# Altium schematic symbol library LNA_1.7GHz.SchLib: 22 symbols
Pins are listed as number, name and electrical type; pins without a type are passive.

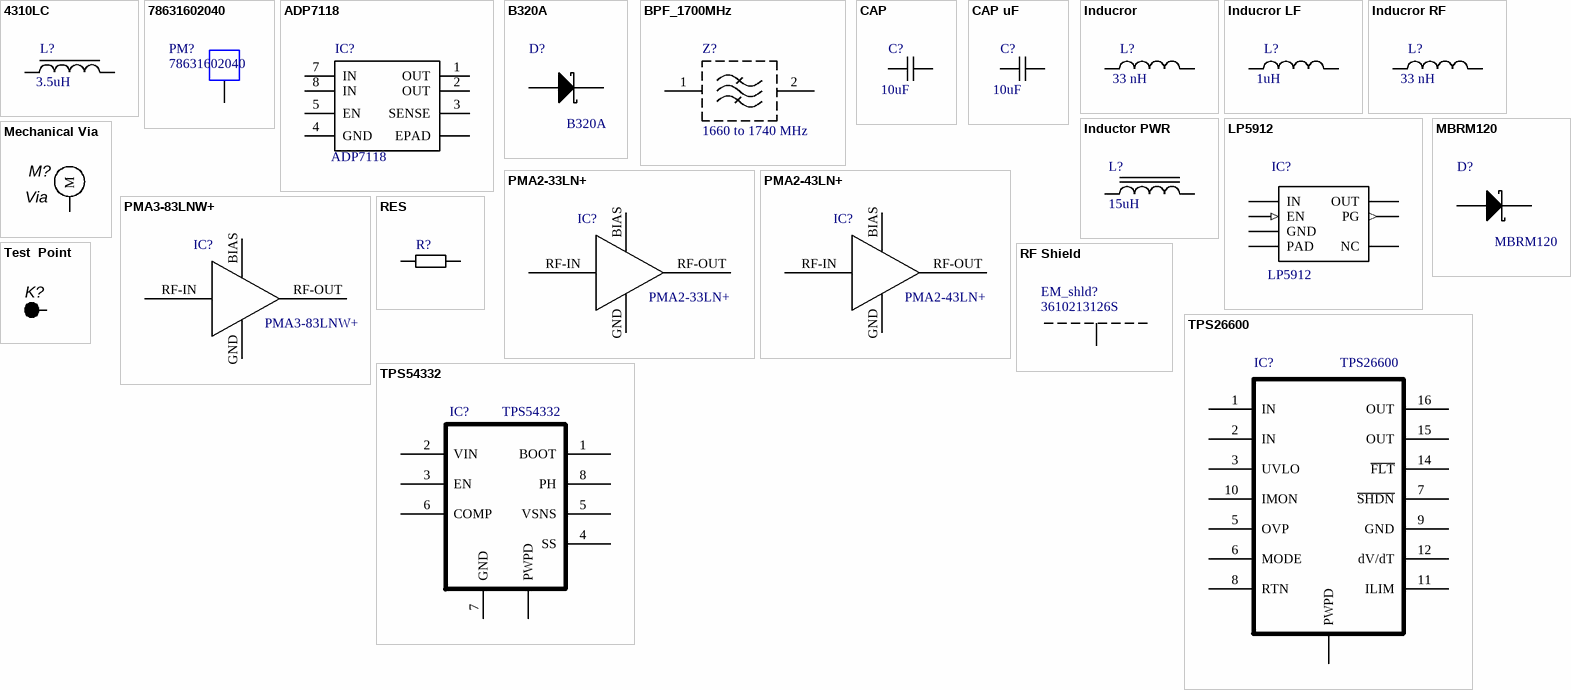
[diagram p0: symbols 4310LC to TPS54332]

## 4310LC
designator L?, comment 3.5uH
Индуктивность; Название: 4310lc; Производитель: Coilcraft; Вид монтажа: SMD; Тип элемента: Катушка индуктивности; Температурный диапазон: -40ºC to 125ºC; Примечание: 3A; Артикул: 4310lc; Номинал: 3.5uH
footprint 4310LC (Coilcraft)
pins: 1, 2

## 78631602040
designator PM?
WE-SCFA Soldered Contact Finger Automotive, L6W2H4mm, Working Height 5~5.7mm; Производитель: Wurth Elektronik; Вид монтажа: SMD/SMT; Артикул: 78631602040
footprint 78631602040 (SMD EMI Contact Finger, 6x2mm)
pins: 1

## ADP7118
designator IC?
Микросхема линейный преобразователь; Производитель: Analog Devices; Корпус: 8-Pin SOIC PowerPAD; Напряжение: 2.7-20 B; Вид монтажа: SMD; Температурный диапазон: −40°C to + 150°C; Примечание: 200mА; Название: ADP7118; Тип элемента: Микросхема
footprint SOIC_N_EP (SOIC, 8-Leads, Body 4,90x3,90mm, Pitch 1,27mm, Thermal Pad 2,29x2,29mm, IPC Medium Density)
footprint SOIC_S_EP (SOIC, 8-Leads, Body 4,90x3,90mm, Pitch 1,27mm, Thermal Pad 2,29x2,29mm, IPC Medium Density)
pins: 1 OUT, 2 OUT, 3 SENSE, 4 GND, 5 EN, 7 IN, 8 IN, 9 EPAD

## B320A
designator D?
Диод Шоттки 100В 1А; Номинал: 1A; Напряжение: 20В; Вид монтажа: SMD; Название: B320A; Артикул: B320A; Тип элемента: Диод шоттки
footprint Diode_SMA (DO-214AC)
pins: 1 K, 2 A

## BPF_1700MHz
designator Z?, comment 1660 to 1740 MHz
Полосковый фильтр; Название: BPF_1700MHz; Вид монтажа: SMD; Температурный диапазон: -40 ~ 100; Примечание: потери 4.5 дБ; Артикул: BPF_1700MHz; Номинал: 1660 to 1740 MHz; Тип элемента: Полосковый фильтр
footprint BPF_1700MHz_10.2_635um (stripline LPF)
pins: 1, 2 "12"

## CAP
designator C?, comment 10uF
Керамический конденсатор; Корпус: 0603 (1608 Metric); Диэлектрик: X5R; Напряжение: 16B; Вид монтажа: SMD; Температурный диапазон: -55 ~ 100; Номинал: 10uF; Тип элемента: Керамический конденсатор
footprint C0402 (Chip Capacitor, Body 1.0x0.5mm, IPC High Density)
footprint C0603 (Chip Capacitor, Body 1.6x0.8mm, IPC High Density)
footprint C0805 (Chip Capacitor, Body 2.0x1.3mm, IPC High Density)
footprint C1206
pins: 1, 2

## CAP uF
designator C?, comment 10uF
Керамический конденсатор; Корпус: 0603 (1608 Metric); Диэлектрик: X5R; Напряжение: 16B; Вид монтажа: SMD; Температурный диапазон: -55 ~ 100; Номинал: 10uF; Тип элемента: Керамический конденсатор
footprint C0805 (Chip Capacitor, Body 2.0x1.3mm, IPC High Density)
footprint C1206
footprint C1210 (Chip Capacitor, Body 3.2x2.5mm, IPC High Density)
footprint C2220 (Chip Capacitor)
pins: 1, 2

## Inducror
designator L?, comment 33 nH
Индуктивность; Производитель: Coilcraft; Корпус: 0603 (1608 Metric); Вид монтажа: SMD; Тип элемента: Катушка индуктивности; Температурный диапазон: -40ºC to 125ºC; Номинал: 33 nH
footprint XFL3012
footprint L0402
footprint L0402_CS
footprint L0603
footprint L0603_LS
footprint L0805_LS
footprint L1008_LS
footprint L1812_PS
pins: 1, 2

## Inducror LF
designator L?, comment 1uH
Индуктивность; Производитель: Murata; Корпус: 1206 [3216 Metric]; Вид монтажа: SMD; Тип элемента: Катушка индуктивности; Температурный диапазон: -40ºC to 125ºC; Номинал: 1uH
footprint L0805_Murata_LQG
footprint L1206_Murata
footprint L1210_Murata
footprint L1210_Murata LQH (Power Lines Inductor)
pins: 1, 2

## Inducror RF
designator L?, comment 33 nH
Индуктивность; Производитель: Coilcraft; Корпус: 0603 (1608 Metric); Вид монтажа: SMD; Тип элемента: Катушка индуктивности; Температурный диапазон: -40ºC to 125ºC; Номинал: 33 nH
footprint L0402HP
footprint L0402HPH
footprint L0603_HP
footprint L0805_HP
pins: 1, 2

## Inductor PWR
designator L?, comment 15uH
Индуктивность; Название: XAL4040-153; Производитель: Coilcraft; Корпус: 0603 (1608 Metric); Вид монтажа: SMD; Тип элемента: Катушка индуктивности; Температурный диапазон: -40ºC to 125ºC; Примечание: 2.5A; Артикул: XAL4040-153; Номинал: 15uH
footprint Coilcraft MSS1038
footprint Coilcraft MSS1048
footprint MS612PNB
footprint Murata 4600/4500 Series Inductor
footprint XAL4020
footprint XAL4030
footprint XAL5050
footprint XAL6060-223
footprint XFL3012
pins: 1, 2

## LP5912
designator IC?
Микросхема линейный преобразователь; Производитель: Texas Instruments; Артикул: LP5912-5.0DRVT; Корпус: WSON; Вид монтажа: SMD; Температурный диапазон: −40°C to + 150°C; Примечание: 500mА; Название: LP5912; Тип элемента: Микросхема
footprint WSON-6 (PLASTIC SMALL OUTLINE - NO LEAD)
pins: 0 PAD, 1 OUT, 2 NC, 3 PG (out), 4 EN (in), 5 GND, 6 IN

## MBRM120
designator D?
Диод Шоттки 100В 1А; Производитель: STMicroelectronics; Номинал: 1A; Напряжение: 20В; Вид монтажа: SMD; Название: MBRM120; Артикул: MBRM120; Тип элемента: Диод шоттки
footprint CASE 457 (POWERMITE  CASE 457?04)
pins: 1 K, 2 A

## Mechanical Via
designator M?, comment Via
Mechanical Via
footprint Mechanical_Via
pins: 0 M

## PMA2-33LN+
designator IC?
Малошумяший усилитель; Производитель: Mini-Circuits; Вид монтажа: SMD; Тип элемента: Микросхема; Температурный диапазон: -40 ~ 100; Название: PMA2-33LN+; Артикул: PMA2-33LN+
footprint MC1631-1_MNC
footprint MC1631-1_MNC-L
footprint MC1631-1_MNC-M
pins: BIAS, GND, RF-IN "1", RF-OUT "12"

## PMA2-43LN+
designator IC?
Малошумяший усилитель; Производитель: Mini-Circuits; Вид монтажа: SMD; Тип элемента: Микросхема; Температурный диапазон: -40 ~ 100; Название: PMA2-43LN+; Артикул: PMA2-43LN+
footprint MC1631-1_MNC
footprint MC1631-1_MNC-L
footprint MC1631-1_MNC-M
pins: BIAS, GND, RF-IN "1", RF-OUT "12"

## PMA3-83LNW+
designator IC?
Малошумяший усилитель; Производитель: Mini-Circuits; Корпус: DQ1225; Вид монтажа: SMD; Тип элемента: Микросхема; Температурный диапазон: -40 ~ 100; Название: PMA3-83LNW+; Артикул: PMA3-83LNW+
pins: BIAS, GND, RF-IN "1", RF-OUT "12"

## RES
designator R?
SMD резистор; Производитель: 1%; Корпус: 0603 (1608 Metric); Точность: 1%; Название: Резистор; Вид монтажа: SMD; Тип элемента: Резистор
footprint R0402
footprint R0603
footprint R0805
pins: 1, 2

## RF Shield
designator EM_shld?, comment 3610213126S
RF Shield Frame X 0.522" (13.26mm) Surface Mount; Производитель: Wurth Elektronik; Вид монтажа: SMD/SMT; Тип элемента: EMI/RFI Shield, One-Piece; Артикул: 3610213126S; Корпус: 0.522" (13.26mm)
footprint 3610213126S (Shielding Cabinet, SMD Frame, body 12.7x13.66mm)
footprint 3610637256S (Shielding Cabinet, SMD Frame, 38.1x25.4mm)
footprint 36900000 (Shielding Cabinet Clip)
pins: 1

## Test  Point
designator K?, comment Контрольная точка  (value not drawn)
Название: Контрольная точка
footprint Control Point
pins: 1

## TPS26600
designator IC?
Микросхема DC-DC преобразователь; Производитель: TI; Вид монтажа: SMD; Температурный диапазон: −40°C to + 150°C; Название: TPS26600; Тип элемента: Микросхема
footprint R-PDSO-G16
pins: 1 IN, 2 IN, 3 UVLO, 5 OVP, 6 MODE, 7 ~{SHDN}, 8 RTN, 9 GND, 10 IMON, 11 ILIM, 12 dV/dT, 14 ~{FLT}, 15 OUT, 16 OUT, 17 PWPD

## TPS54332
designator IC?
Микросхема DC-DC преобразователь; Производитель: TI; Корпус: 8-Pin SOIC PowerPAD; Напряжение: 3.5-28 B; Вид монтажа: SMD; Температурный диапазон: −40°C to + 150°C; Примечание: 3А; Название: TPS54332; Тип элемента: Микросхема
footprint R-PDSO-G8 (PowerPAD PLASTIC SMALL OUTLINE)
pins: 1 BOOT, 2 VIN, 3 EN, 4 SS, 5 VSNS, 6 COMP, 7 GND, 8 PH, 9 PWPD